# Altium schematic symbol library pwr_sw_syncRect_ctrl.SchLib: 2 symbols
Pins are listed as number, name and electrical type; pins without a type are passive.

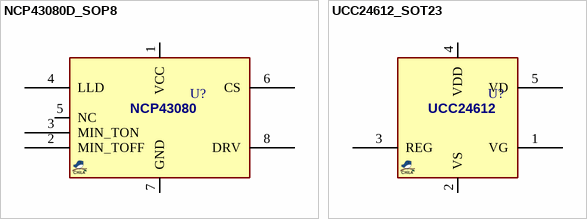
[diagram p0: symbols NCP43080D_SOP8 to UCC24612_SOT23]

## NCP43080D_SOP8
designator U?, comment NCP43080  (value not drawn)
syncRect ctrl,; MANF: ON; MANF_P#: NCP43080DDR2G; PARAM2: 5~35Vcc, -40~125°C; PARAM: 8A Sink/4A Source, 40ns tpd, 500kHz; Value: NCP43080
footprint SO_8 (SOP-8, 5x3.9mm body 1.27mm pitch, SOT96-1, M08A, S8, SOIC8, VO8, MS-012AA(JEDEC), R-8, 8S2, VOG8)
pins: 1 VCC, 2 MIN_TOFF, 3 MIN_TON, 4 LLD, 5 NC, 6 CS, 7 GND, 8 DRV

## UCC24612_SOT23
designator U?, comment UCC24612  (value not drawn)
syncRect ctrl,; MANF: Texas Instruments; MANF_P#: UCC24612-1DBV; PARAM2: 5~28Vdd, -40~125°C; PARAM: 4A Sink/1A Source, 16ns tpd, 1MHz; Value: UCC24612
footprint SOT23_5 (SOT-23-5, SOT25, SOT-25, DBV(R-PDSO-G5), SOT753, TSOT23-5, SC-74A, SOT23-5, S5-T (LINEAR), MO-178AA, MO-193AB(JEDEC), MF05A (NS), TSOP-5(ON), UJ-5 (AD), 0.95mm pitch 3X1.5mm)
pins: 1 VG, 2 VS, 3 REG, 4 VDD, 5 VD